# Altium footprint library Surface Mount Push Button Switch.PcbLib: 1 footprints
Each footprint in its own frame and in the unit in brackets; x right, y up, seen from the top. Pads: shape width x height; smd on the part's side, far side on the other; paste and mask are expansions set on the pad; w line width, h text height; cw(c..) or ccw(c..) is an arc to the next point about the centre after c.
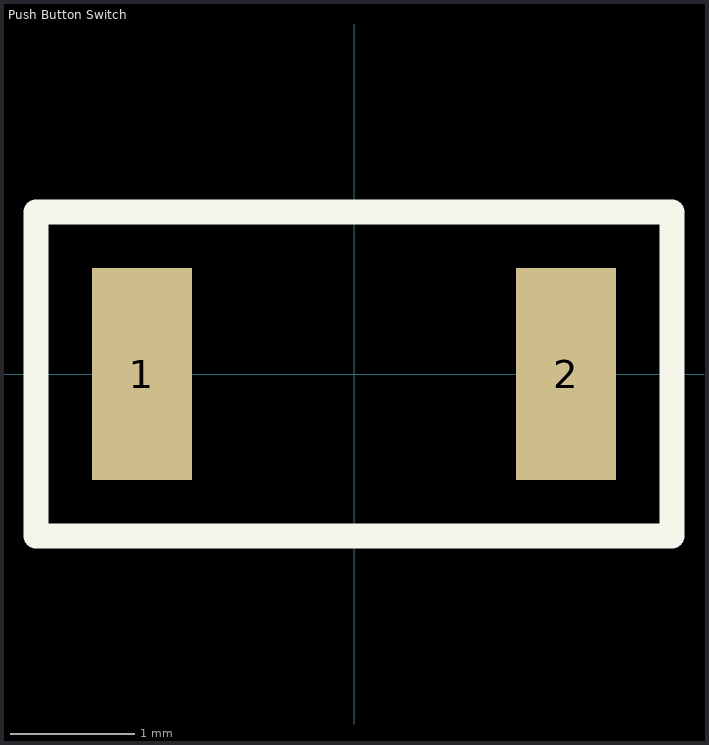
[diagram p0: the footprint, top view; thin cyan lines are the x and y axes]

## Push Button Switch [mm]
pads (2):
  rect 0.8x1.7 smd: 1(-1.7,0) 2(1.7,0)
Top Overlay:
  lines w0.2: -2.55,-1.3 -2.55,1.3 2.55,1.3 2.55,-1.3 -2.55,-1.3
3D body: height 1.6, standoff 1.2, extent -0.75,-0.75 0.75,0.75
3D body: height 0.3, standoff 0, extent 1.27,-0.762 2.159,0.762
3D body: height 0.3, standoff 0, extent -2.159,-0.762 -1.27,0.762
3D body: height 1.2, standoff 0, extent -1.27,-0.889 1.27,0.889